# Altium footprint library LGA.PcbLib: 8 footprints
Each footprint in its own frame and in the unit in brackets; x right, y up, seen from the top. Pads: shape width x height; smd on the part's side, far side on the other; paste and mask are expansions set on the pad; w line width, h text height; cw(c..) or ccw(c..) is an arc to the next point about the centre after c.
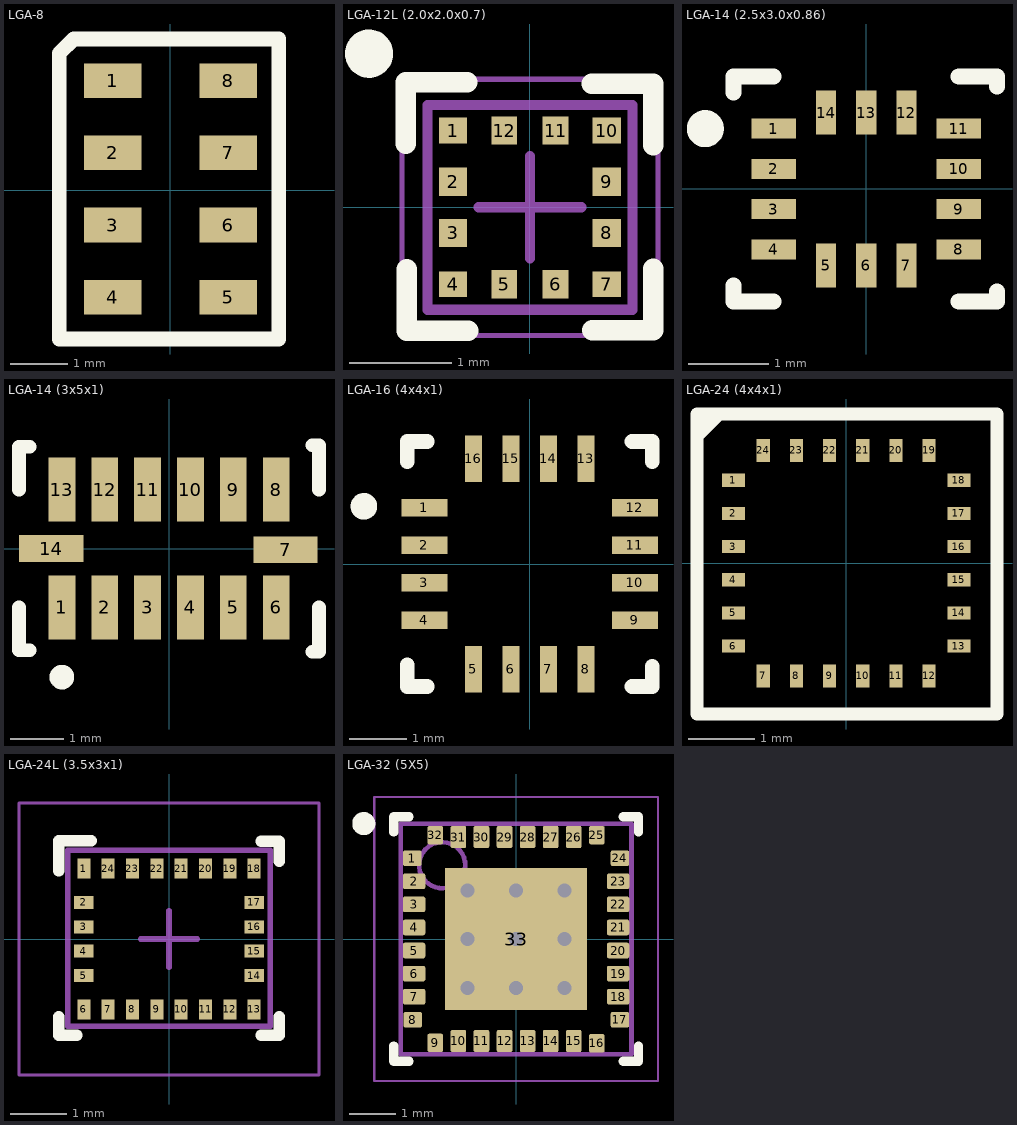
[diagram p0: the footprints below, top view; thin cyan lines are the x and y axes]

## LGA-8 [mm] "LGA-8 package for sensor MPL3115A2"
height 1.2
pads (8):
  rect 1x0.6 smd mask+0.05: 1(-1,1.9) 2(-1,0.65) 3(-1,-0.6) 4(-1,-1.85) 5(1,-1.85) 6(1,-0.6) 7(1,0.65) 8(1,1.9)
Top Overlay:
  lines w0.254: -1.925,-2.575 -1.925,2.375 -1.675,2.625 -1.65,2.625 1.875,2.625 1.875,-2.575 -1.925,-2.575
3D body "MPL3115.step": height 1.1, standoff 0, extent -1.5,-2.5 1.5,2.5

## LGA-12L (2.0x2.0x0.7) [mm] "LGA, 12-Leads, Body 2,00x2,00mmx0,70mm, Pitch 0,50mm"
height 0.7
pads (12):
  rect 0.275x0.25 smd mask+0.05: 1(-0.75,0.75) 4(-0.75,-0.75) 7(0.75,-0.75) 10(0.75,0.75)
  rect 0.275x0.275 smd mask+0.05: 2(-0.75,0.25) 3(-0.75,-0.25) 8(0.75,-0.25) 9(0.75,0.25)
  rect 0.25x0.275 smd mask+0.05: 5(-0.25,-0.75) 6(0.25,-0.75) 11(0.25,0.75) 12(-0.25,0.75)
Top Overlay:
  circle w0.254: c-1.57,1.5 r0.108
  lines w0.2: -1.21,0.62 -1.21,1.22 -0.61,1.22 ; -1.201,-0.606 -1.201,-1.206 -0.601,-1.206 ; 0.601,1.206 1.201,1.206 1.201,0.606 ; 0.606,-1.201 1.206,-1.201 1.206,-0.601
Mechanical 13:
  lines w0.1: -1,-1 -1,1 1,1 1,-1 -1,-1
Mechanical 15:
  lines w0.05: -1.25,-1.25 -1.25,1.25 1.25,1.25 1.25,-1.25 -1.25,-1.25
  lines w0.1: -0.5,0 0.5,0 ; 0,-0.5 0,0.5
3D body "LGA-12L (2.0x2.0x0.7).step": height 0.7, standoff 0, extent -1,-1 1,1

## LGA-14 (2.5x3.0x0.86) [mm] "Land Grid Array Package"
height 0.86
pads (14):
  rect 0.55x0.25 smd mask+0.05: 1(-1.15,0.75) 2(-1.15,0.25) 3(-1.15,-0.25) 4(-1.15,-0.75) 8(1.15,-0.75) 9(1.15,-0.25) 10(1.15,0.25) 11(1.15,0.75)
  rect 0.25x0.55 smd mask+0.05: 5(-0.5,-0.95) 6(0,-0.95) 7(0.5,-0.95) 12(0.5,0.95) 13(0,0.95) 14(-0.5,0.95)
Top Overlay:
  circle w0.254: c-2,0.75 r0.103
  lines w0.2: -1.65,-1.2 -1.65,-1.4 -1.15,-1.4 ; -1.65,1.2 -1.65,1.4 -1.15,1.4 ; 1.15,-1.4 1.625,-1.4 1.625,-1.275 ; 1.15,1.4 1.625,1.4 1.625,1.275 ; 1.625,1.275 1.625,1.275
3D body "User Library-LGA-14L.step": height 0.91, standoff 0.04, extent -1.5,-1.25 1.5,1.25

## LGA-14 (3x5x1) [mm] "Land Grid Array Package"
height 1
pads (14):
  rect 0.5x1.2 smd mask+0.05: 1(-2,-1.1) 2(-1.2,-1.1) 3(-0.4,-1.1) 4(0.4,-1.1) 5(1.2,-1.1) 6(2,-1.1) 8(2,1.1) 9(1.2,1.1) 10(0.4,1.1) 11(-0.4,1.1) 12(-1.2,1.1) 13(-2,1.1)
  rect 1.2x0.5 smd mask+0.05: 7(2.175,-0.025) 14(-2.2,0)
Top Overlay:
  circle w0.254: c-2,-2.4 r0.103
  lines w0.254: -2.8,-1.1 -2.8,-1.9 -2.6,-1.9 ; -2.8,1.1 -2.8,1.9 -2.6,1.9 ; 2.675,1.925 2.8,1.925 2.8,1.1 ; 2.8,-1.1 2.8,-1.925 2.675,-1.925 ; 2.675,-1.925 2.675,-1.925
3D body "SW3dPS-LGA-14.STEP": height 1.03, standoff -0.4, extent -2.5,-1.5 2.5,1.5

## LGA-16 (4x4x1) [mm] "Land Grid Array Package"
height 1
pads (16):
  rect 0.8x0.3 smd mask+0.05: 1(-1.825,0.975) 2(-1.825,0.325) 3(-1.825,-0.325) 4(-1.825,-0.975) 9(1.825,-0.975) 10(1.825,-0.325) 11(1.825,0.325) 12(1.825,0.975)
  rect 0.3x0.8 smd mask+0.05: 5(-0.975,-1.825) 6(-0.325,-1.825) 7(0.325,-1.825) 8(0.975,-1.825) 13(0.975,1.825) 14(0.325,1.825) 15(-0.325,1.825) 16(-0.975,1.825)
Top Overlay:
  circle w0.254: c-2.875,1 r0.103
  lines w0.254: -2.125,1.775 -2.125,2.125 -1.775,2.125 ; -1.775,-2.125 -2.125,-2.125 -2.125,-1.75 ; 1.775,2.125 2.125,2.125 ; 2.125,-1.775 2.125,-2.125 1.775,-2.125 ; 2.125,1.775 2.125,2.125 ; -2.125,-1.75 -2.125,-1.75 ; 1.775,-2.125 1.775,-2.125 ; 2.125,2.125 2.125,2.125
3D body "User Library-LGA-16.step": height 0.98, standoff 0, extent -2,-2 2,2

## LGA-24 (4x4x1) [mm] "LGA 4x4x1 mm 24-lead outline"
height 1
pads (24):
  rect 0.35x0.2 smd mask+0.05: 1(-1.7,1.25) 2(-1.7,0.75) 3(-1.7,0.25) 4(-1.7,-0.25) 5(-1.7,-0.75) 6(-1.7,-1.25) 13(1.7,-1.25) 14(1.7,-0.75) 15(1.7,-0.25) 16(1.7,0.25) 17(1.7,0.75) 18(1.7,1.25)
  rect 0.2x0.35 smd mask+0.05: 7(-1.25,-1.7) 8(-0.75,-1.7) 9(-0.25,-1.7) 10(0.25,-1.7) 11(0.75,-1.7) 12(1.25,-1.7) 19(1.25,1.7) 20(0.75,1.7) 21(0.25,1.7) 22(-0.25,1.7) 23(-0.75,1.7) 24(-1.25,1.7)
Top Overlay:
  lines w0.2: -2.25,1.925 -1.925,2.25 ; -2.25,-2.275 2.275,-2.275 2.275,2.25 -2.25,2.25 -2.25,-2.275
3D body "User Library-LGA-24.step": height 1.08, standoff 0, extent -1.975,-2 2.025,2

## LGA-24L (3.5x3x1) [mm] "LCC, 24-Pins, Body 3,58x3,08mmx1,03mm, Pitch 0,43mm, IPC Medium Density"
height 1.03
pads (24):
  rect 0.23x0.35 smd mask+0.05: 1(-1.505,1.245) 6(-1.505,-1.245) 7(-1.075,-1.245) 8(-0.645,-1.245) 9(-0.215,-1.245) 10(0.215,-1.245) 11(0.645,-1.245) 12(1.075,-1.245) 13(1.505,-1.245) 18(1.505,1.245) 19(1.075,1.245) 20(0.645,1.245) 21(0.215,1.245) 22(-0.215,1.245) 23(-0.645,1.245) 24(-1.075,1.245)
  rect 0.35x0.23 smd mask+0.05: 2(-1.505,0.645) 3(-1.505,0.215) 4(-1.505,-0.215) 5(-1.505,-0.645) 14(1.505,-0.645) 15(1.505,-0.215) 16(1.505,0.215) 17(1.505,0.645)
Top Overlay:
  lines w0.2: -1.95,-1.375 -1.95,-1.7 -1.625,-1.7 ; -1.95,1.2 -1.95,1.735 -1.375,1.735 ; 1.625,-1.7 1.95,-1.7 1.95,-1.375 ; 1.625,1.725 1.95,1.725 ; 1.95,1.375 1.95,1.7
Mechanical 13:
  lines w0.1: 1.79,1.54 1.79,-1.54 -1.79,-1.54 -1.79,1.565 1.79,1.565
Mechanical 15:
  lines w0.05: -2.65,-2.4 -2.65,2.4 2.65,2.4 2.65,-2.4 -2.65,-2.4
  lines w0.1: -0.5,0 0.5,0 ; 0,-0.5 0,0.5
3D body "User Library-LGA-24L.step": height 0.97, standoff -0.03, extent -1.75,-1.5 1.75,1.5

## LGA-32 (5X5) [mm] "LGA, 32-Leads, Body 5.00x5.00mm, Pitch 0.50mm, Thermal Pad 3.08x3.08mm, IPC Medium Density"
height 0.94
pads (33):
  rrect25% 0.4x0.34 smd mask+0.05: 1(-2.25,1.75) 8(-2.24,-1.75) 17(2.25,-1.75) 24(2.25,1.75)
  rrect25% 0.485x0.34 smd mask+0.05: 2(-2.21,1.25) 3(-2.21,0.75) 4(-2.21,0.25) 5(-2.21,-0.25) 6(-2.21,-0.75) 7(-2.21,-1.25) 18(2.21,-1.25) 19(2.21,-0.75) 20(2.21,-0.25) 21(2.21,0.25) 22(2.21,0.75) 23(2.21,1.25)
  rrect25% 0.34x0.4 smd mask+0.05: 9(-1.75,-2.25) 16(1.75,-2.26) 25(1.75,2.25) 32(-1.75,2.25)
  rrect25% 0.34x0.485 smd mask+0.05: 10(-1.25,-2.21) 11(-0.75,-2.21) 12(-0.25,-2.21) 13(0.25,-2.21) 14(0.75,-2.21) 15(1.25,-2.21) 26(1.25,2.21) 27(0.75,2.21) 28(0.25,2.21) 29(-0.25,2.21) 30(-0.75,2.21) 31(-1.25,2.21)
  rect 3.08x3.08 smd: 33(0,0)
via -1.05,1.05 diameter 0.7 hole 0.3
via 0,1.05 diameter 0.7 hole 0.3
via 1.05,1.05 diameter 0.7 hole 0.3
via -1.05,0 diameter 0.7 hole 0.3
via 0,0 diameter 0.7 hole 0.3
via 1.05,0 diameter 0.7 hole 0.3
via 1.05,-1.06 diameter 0.7 hole 0.3
via 0,-1.06 diameter 0.7 hole 0.3
via -1.05,-1.06 diameter 0.7 hole 0.3
Top Overlay:
  circle w0.25: c-3.3,2.5 r0.125
  lines w0.2: -2.65,-2.32 -2.65,-2.65 -2.32,-2.65 ; -2.65,2.32 -2.65,2.65 -2.32,2.65 ; 2.32,-2.65 2.65,-2.65 2.65,-2.32 ; 2.32,2.65 2.65,2.65 2.65,2.32
Mechanical 13:
  circle w0.1: c-1.6,1.6 r0.5
  lines w0.1: -2.5,-2.5 -2.5,2.5 2.5,2.5 2.5,-2.5 -2.5,-2.5
Mechanical 15:
  lines w0.05: -3.075,-3.075 -3.075,3.075 3.075,3.075 3.075,-3.075 -3.075,-3.075
  lines w0.1: -0.5,0 0.5,0 ; 0,-0.5 0,0.5
3D body "LGA-32 (5X5).step": height 0.94, standoff 0, extent -2.55,-2.55 2.55,2.55